# Altium integrated library TI Interface LVDS M-LVDS ECL CML.IntLib: 251 symbols (part 4 of 10)
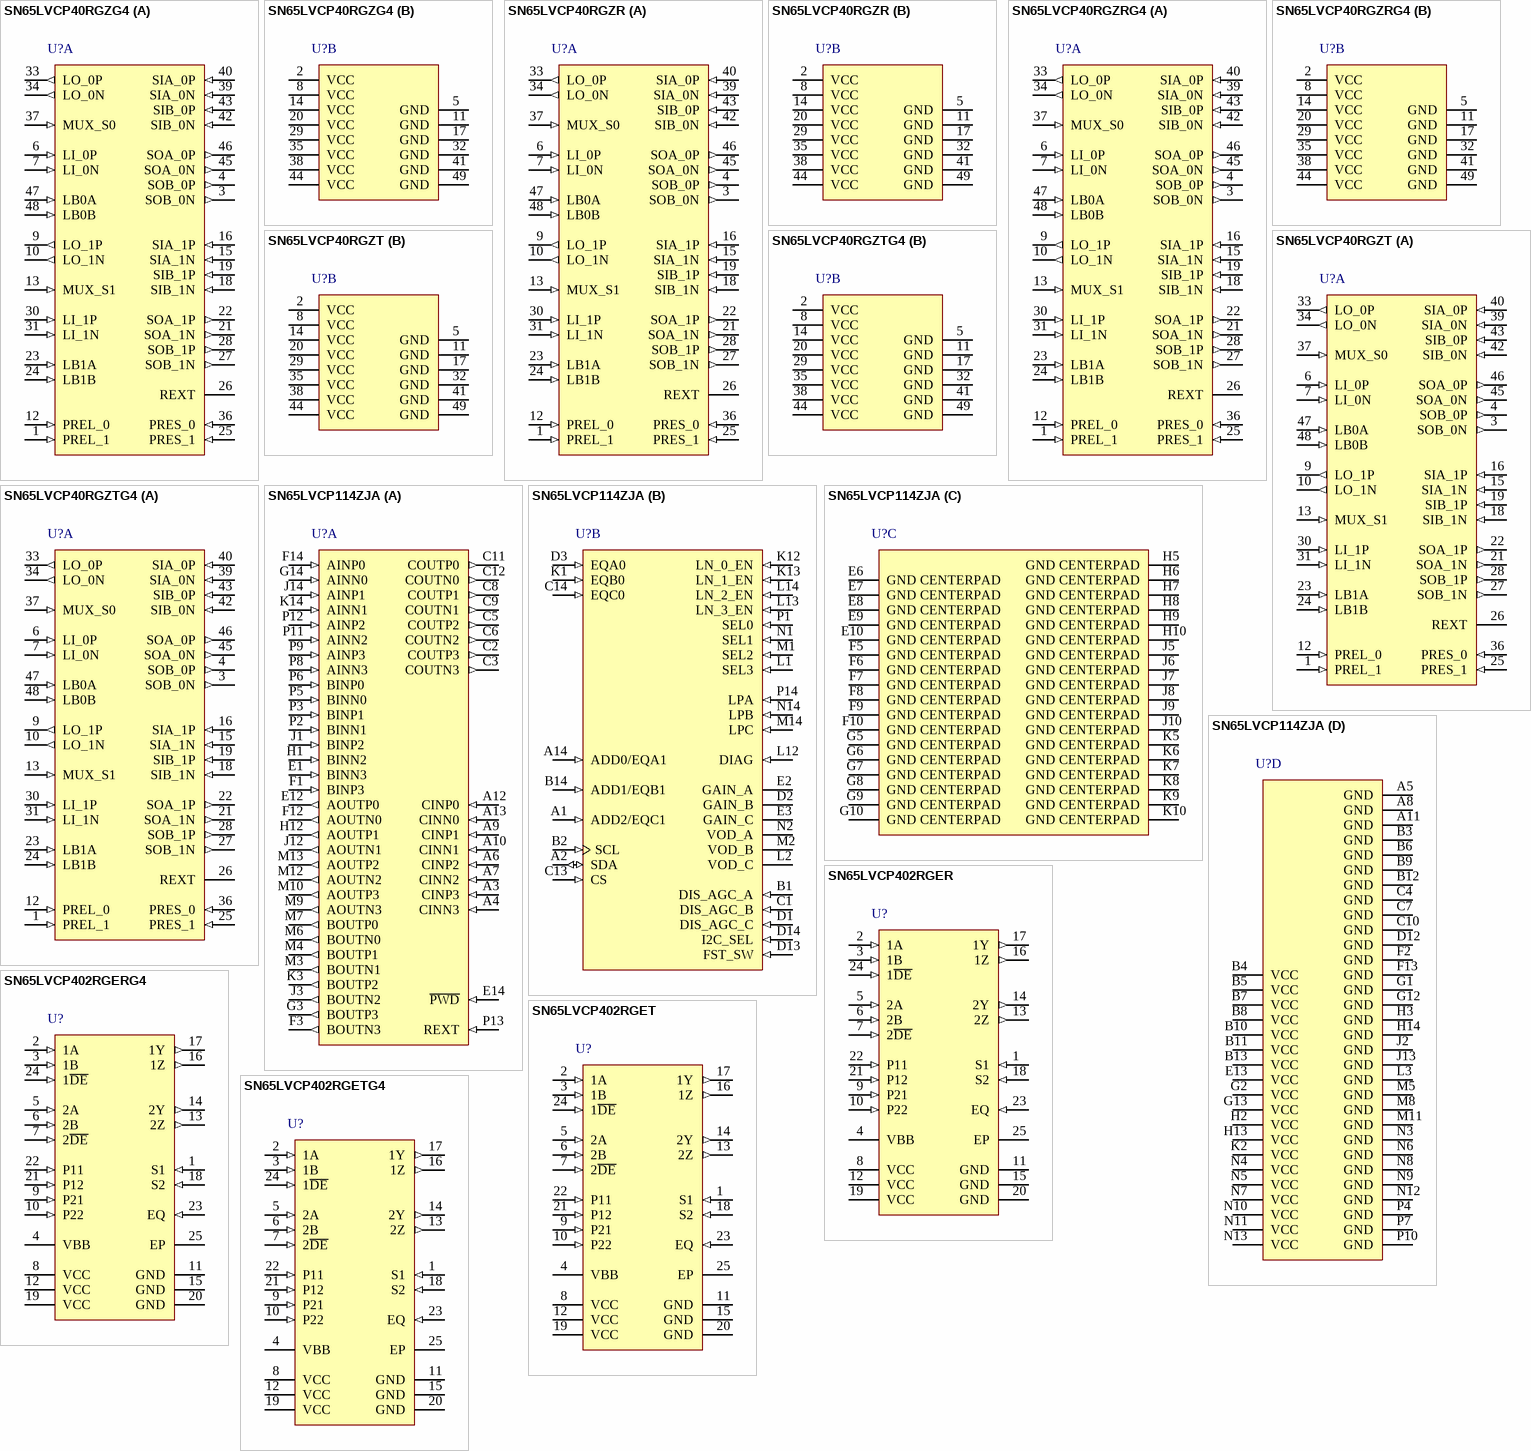
[diagram p12: symbols SN65LVCP40RGZG4 to SN65LVCP402RGETG4]

## SN65LVCP402RGER
designator U?
4250 Mbps 2 x 2 Gigabit Crosspoint Switch with CML Input and VML Output, 2 Tx and 2 Rx, -40 to +85 degC, 25-pin VQFN (RGE), Green (RoHS & no Sb/Br); Part-to-Part Skew(Max)(ps): 500; Manufacturer: Texas Instruments; PartNumber: SN65LVCP402RGER; Crosspoint-Switch: TRUE; ESD HBM(kV): 3; ICC(Max)(mA): 110; Input Signal: CML, VML; No. of Rx: 2; Peak-to-Peak Jitter(Max)(ps): 30; Signaling Rate(Mbps): 4250; SubFamily: Crosspoint-Switch (>1Gbps); DatasheetVersion: SLLS699A; PackageVersion: revG, Jul-2011; PackageReference: RGE24-2450X2450TP; PackageDescription: 24-Pin Plastic Quad Flatpack No-Lead, 4 x 4 mm Body, 0.5 mm Pitch; Supplier 1: Digi-Key; Supplier Part Number 1: SN65LVCP402RGER-ND; Supplier 2: Newark; Supplier Part Number 2: 50M8931; Supplier 3: Mouser; Supplier Part Number 3: 595-SN65LVCP402RGER; Eco-Plan: Green (RoHS & no Sb/Br); Function: Crosspoint; No. of Tx: 2; Output Signal: VML; Mounting Technology: Surface Mount; Code_JEDEC: MO-220; ComponentLink1Description: Datasheet; ComponentLink1URL: http://www.ti.com/general/docs/lit/getliterature.tsp?genericPartNumber=SN65LVCP402&fileType=pdf; ComponentLink2Description: URL Link1; ComponentLink2URL: SamplesURL:http://www.ti.com/product/sn65lvcp402#samples
footprint RGE24-2450X2450TP (QFN, 24-Leads, Body 4x4mm, Pitch 0.5mm, Thermal Pad 2.45x2.45mm, TI Recommended)
pins: 1 S1 (in) "Switching Selection; LVTTL", 2 1A (in) "Line Side Differential Inputs CML compatible", 3 1B (in) "Line Side Differential Inputs CML compatible", 4 VBB (power) "Receiver input biasing voltage.For ac coupling, VBB should be left floating for optimal bias value. For dc coupling, VBB can driven to change the common mode. [see datasheet]", 5 2A (in) "Line Side Differential Inputs CML compatible", 6 2B (in) "Line Side Differential Inputs CML compatible", 7 2~{DE} (in) "Data Enable; Active Low; LVTTL;When not enabled the output is in 3-STATE mode for power savings", 8 VCC (power) "Power Supply 3.3 V +/-5%", 9 P21 (in) "Output Preemphasis Control; LVTTL", 10 P22 (in) "Output Preemphasis Control; LVTTL", 11 GND (power) "ground", 12 VCC (power) "Power Supply 3.3 V +/-5%", 13 2Z (out) "Switch Side Differential Outputs. VML", 14 2Y (out) "Switch Side Differential Outputs. VML", 15 GND (power) "ground", 16 1Z (out) "Switch Side Differential Outputs. VML", 17 1Y (out) "Switch Side Differential Outputs. VML", 18 S2 (in) "Switching Selection; LVTTL", 19 VCC (power) "Power Supply 3.3 V +/-5%", 20 GND (power) "ground", 21 P12 (in) "Output Preemphasis Control; LVTTL", 22 P11 (in) "Output Preemphasis Control; LVTTL", 23 EQ (in) "EQ=1(default) is for the 5 dB setting; EQ=0 is for the 12 dB setting", 24 1~{DE} (in) "Data Enable; Active Low; LVTTL;When not enabled the output is in 3-STATE mode for power savings", 25 EP (power) "The ground center pad of the package must be connected to  Thermal Pad Thermal Pad  GND plane with thermal vias."

## SN65LVCP402RGERG4
designator U?
4250 Mbps 2 x 2 Gigabit Crosspoint Switch with CML Input and VML Output, 2 Tx and 2 Rx, -40 to +85 degC, 25-pin VQFN (RGE), Green (RoHS & no Sb/Br); Part-to-Part Skew(Max)(ps): 500; Manufacturer: Texas Instruments; PartNumber: SN65LVCP402RGERG4; Crosspoint-Switch: TRUE; ESD HBM(kV): 3; ICC(Max)(mA): 110; Input Signal: CML, VML; No. of Rx: 2; Peak-to-Peak Jitter(Max)(ps): 30; Signaling Rate(Mbps): 4250; SubFamily: Crosspoint-Switch (>1Gbps); DatasheetVersion: SLLS699A; PackageVersion: revG, Jul-2011; PackageReference: RGE24-2450X2450TP; PackageDescription: 24-Pin Plastic Quad Flatpack No-Lead, 4 x 4 mm Body, 0.5 mm Pitch; Supplier 1: Digi-Key; Supplier Part Number 1: SN65LVCP402RGERG4-ND; Supplier 2: Newark; Supplier Part Number 2: 52M6012; Supplier 3: Mouser; Supplier Part Number 3: 595-65LVCP402RGERG4; Eco-Plan: Green (RoHS & no Sb/Br); Function: Crosspoint; No. of Tx: 2; Output Signal: VML; Mounting Technology: Surface Mount; Code_JEDEC: MO-220; ComponentLink1Description: Datasheet; ComponentLink1URL: http://www.ti.com/general/docs/lit/getliterature.tsp?genericPartNumber=SN65LVCP402&fileType=pdf; ComponentLink2Description: URL Link1; ComponentLink2URL: SamplesURL:http://www.ti.com/product/sn65lvcp402#samples
footprint RGE24-2450X2450TP (QFN, 24-Leads, Body 4x4mm, Pitch 0.5mm, Thermal Pad 2.45x2.45mm, TI Recommended)
pins: 1 S1 (in) "Switching Selection; LVTTL", 2 1A (in) "Line Side Differential Inputs CML compatible", 3 1B (in) "Line Side Differential Inputs CML compatible", 4 VBB (power) "Receiver input biasing voltage.For ac coupling, VBB should be left floating for optimal bias value. For dc coupling, VBB can driven to change the common mode. [see datasheet]", 5 2A (in) "Line Side Differential Inputs CML compatible", 6 2B (in) "Line Side Differential Inputs CML compatible", 7 2~{DE} (in) "Data Enable; Active Low; LVTTL;When not enabled the output is in 3-STATE mode for power savings", 8 VCC (power) "Power Supply 3.3 V +/-5%", 9 P21 (in) "Output Preemphasis Control; LVTTL", 10 P22 (in) "Output Preemphasis Control; LVTTL", 11 GND (power) "ground", 12 VCC (power) "Power Supply 3.3 V +/-5%", 13 2Z (out) "Switch Side Differential Outputs. VML", 14 2Y (out) "Switch Side Differential Outputs. VML", 15 GND (power) "ground", 16 1Z (out) "Switch Side Differential Outputs. VML", 17 1Y (out) "Switch Side Differential Outputs. VML", 18 S2 (in) "Switching Selection; LVTTL", 19 VCC (power) "Power Supply 3.3 V +/-5%", 20 GND (power) "ground", 21 P12 (in) "Output Preemphasis Control; LVTTL", 22 P11 (in) "Output Preemphasis Control; LVTTL", 23 EQ (in) "EQ=1(default) is for the 5 dB setting; EQ=0 is for the 12 dB setting", 24 1~{DE} (in) "Data Enable; Active Low; LVTTL;When not enabled the output is in 3-STATE mode for power savings", 25 EP (power) "The ground center pad of the package must be connected to  Thermal Pad Thermal Pad  GND plane with thermal vias."

## SN65LVCP402RGET
designator U?
4250 Mbps 2 x 2 Gigabit Crosspoint Switch with CML Input and VML Output, 2 Tx and 2 Rx, -40 to +85 degC, 25-pin VQFN (RGE), Green (RoHS & no Sb/Br); Part-to-Part Skew(Max)(ps): 500; Manufacturer: Texas Instruments; PartNumber: SN65LVCP402RGET; Crosspoint-Switch: TRUE; ESD HBM(kV): 3; ICC(Max)(mA): 110; Input Signal: CML, VML; No. of Rx: 2; Peak-to-Peak Jitter(Max)(ps): 30; Signaling Rate(Mbps): 4250; SubFamily: Crosspoint-Switch (>1Gbps); DatasheetVersion: SLLS699A; PackageVersion: revG, Jul-2011; PackageReference: RGE24-2450X2450TP; PackageDescription: 24-Pin Plastic Quad Flatpack No-Lead, 4 x 4 mm Body, 0.5 mm Pitch; Supplier 1: Digi-Key; Supplier Part Number 1: 296-22242-2-ND; Supplier 2: Digi-Key; Supplier Part Number 2: 296-22242-1-ND; Supplier 3: Digi-Key; Supplier Part Number 3: 296-22242-6-ND; Supplier 4: Newark; Supplier Part Number 4: 50M8932; Supplier 5: Mouser; Supplier Part Number 5: 595-SN65LVCP402RGET; Eco-Plan: Green (RoHS & no Sb/Br); Function: Crosspoint; No. of Tx: 2; Output Signal: VML; Mounting Technology: Surface Mount; Code_JEDEC: MO-220; ComponentLink1Description: Datasheet; ComponentLink1URL: http://www.ti.com/general/docs/lit/getliterature.tsp?genericPartNumber=SN65LVCP402&fileType=pdf; ComponentLink2Description: URL Link1; ComponentLink2URL: SamplesURL:http://www.ti.com/product/sn65lvcp402#samples
footprint RGE24-2450X2450TP (QFN, 24-Leads, Body 4x4mm, Pitch 0.5mm, Thermal Pad 2.45x2.45mm, TI Recommended)
pins: 1 S1 (in) "Switching Selection; LVTTL", 2 1A (in) "Line Side Differential Inputs CML compatible", 3 1B (in) "Line Side Differential Inputs CML compatible", 4 VBB (power) "Receiver input biasing voltage.For ac coupling, VBB should be left floating for optimal bias value. For dc coupling, VBB can driven to change the common mode. [see datasheet]", 5 2A (in) "Line Side Differential Inputs CML compatible", 6 2B (in) "Line Side Differential Inputs CML compatible", 7 2~{DE} (in) "Data Enable; Active Low; LVTTL;When not enabled the output is in 3-STATE mode for power savings", 8 VCC (power) "Power Supply 3.3 V +/-5%", 9 P21 (in) "Output Preemphasis Control; LVTTL", 10 P22 (in) "Output Preemphasis Control; LVTTL", 11 GND (power) "ground", 12 VCC (power) "Power Supply 3.3 V +/-5%", 13 2Z (out) "Switch Side Differential Outputs. VML", 14 2Y (out) "Switch Side Differential Outputs. VML", 15 GND (power) "ground", 16 1Z (out) "Switch Side Differential Outputs. VML", 17 1Y (out) "Switch Side Differential Outputs. VML", 18 S2 (in) "Switching Selection; LVTTL", 19 VCC (power) "Power Supply 3.3 V +/-5%", 20 GND (power) "ground", 21 P12 (in) "Output Preemphasis Control; LVTTL", 22 P11 (in) "Output Preemphasis Control; LVTTL", 23 EQ (in) "EQ=1(default) is for the 5 dB setting; EQ=0 is for the 12 dB setting", 24 1~{DE} (in) "Data Enable; Active Low; LVTTL;When not enabled the output is in 3-STATE mode for power savings", 25 EP (power) "The ground center pad of the package must be connected to  Thermal Pad Thermal Pad  GND plane with thermal vias."

## SN65LVCP402RGETG4
designator U?
4250 Mbps 2 x 2 Gigabit Crosspoint Switch with CML Input and VML Output, 2 Tx and 2 Rx, -40 to +85 degC, 25-pin VQFN (RGE), Green (RoHS & no Sb/Br); Part-to-Part Skew(Max)(ps): 500; Manufacturer: Texas Instruments; PartNumber: SN65LVCP402RGETG4; Crosspoint-Switch: TRUE; ESD HBM(kV): 3; ICC(Max)(mA): 110; Input Signal: CML, VML; No. of Rx: 2; Peak-to-Peak Jitter(Max)(ps): 30; Signaling Rate(Mbps): 4250; SubFamily: Crosspoint-Switch (>1Gbps); DatasheetVersion: SLLS699A; PackageVersion: revG, Jul-2011; PackageReference: RGE24-2450X2450TP; PackageDescription: 24-Pin Plastic Quad Flatpack No-Lead, 4 x 4 mm Body, 0.5 mm Pitch; Supplier 1: Digi-Key; Supplier Part Number 1: SN65LVCP402RGETG4-ND; Supplier 2: Newark; Supplier Part Number 2: 52M6013; Supplier 3: Mouser; Supplier Part Number 3: 595-65LVCP402RGETG4; Eco-Plan: Green (RoHS & no Sb/Br); Function: Crosspoint; No. of Tx: 2; Output Signal: VML; Mounting Technology: Surface Mount; Code_JEDEC: MO-220; ComponentLink1Description: Datasheet; ComponentLink1URL: http://www.ti.com/general/docs/lit/getliterature.tsp?genericPartNumber=SN65LVCP402&fileType=pdf; ComponentLink2Description: URL Link1; ComponentLink2URL: SamplesURL:http://www.ti.com/product/sn65lvcp402#samples
footprint RGE24-2450X2450TP (QFN, 24-Leads, Body 4x4mm, Pitch 0.5mm, Thermal Pad 2.45x2.45mm, TI Recommended)
pins: 1 S1 (in) "Switching Selection; LVTTL", 2 1A (in) "Line Side Differential Inputs CML compatible", 3 1B (in) "Line Side Differential Inputs CML compatible", 4 VBB (power) "Receiver input biasing voltage.For ac coupling, VBB should be left floating for optimal bias value. For dc coupling, VBB can driven to change the common mode. [see datasheet]", 5 2A (in) "Line Side Differential Inputs CML compatible", 6 2B (in) "Line Side Differential Inputs CML compatible", 7 2~{DE} (in) "Data Enable; Active Low; LVTTL;When not enabled the output is in 3-STATE mode for power savings", 8 VCC (power) "Power Supply 3.3 V +/-5%", 9 P21 (in) "Output Preemphasis Control; LVTTL", 10 P22 (in) "Output Preemphasis Control; LVTTL", 11 GND (power) "ground", 12 VCC (power) "Power Supply 3.3 V +/-5%", 13 2Z (out) "Switch Side Differential Outputs. VML", 14 2Y (out) "Switch Side Differential Outputs. VML", 15 GND (power) "ground", 16 1Z (out) "Switch Side Differential Outputs. VML", 17 1Y (out) "Switch Side Differential Outputs. VML", 18 S2 (in) "Switching Selection; LVTTL", 19 VCC (power) "Power Supply 3.3 V +/-5%", 20 GND (power) "ground", 21 P12 (in) "Output Preemphasis Control; LVTTL", 22 P11 (in) "Output Preemphasis Control; LVTTL", 23 EQ (in) "EQ=1(default) is for the 5 dB setting; EQ=0 is for the 12 dB setting", 24 1~{DE} (in) "Data Enable; Active Low; LVTTL;When not enabled the output is in 3-STATE mode for power savings", 25 EP (power) "The ground center pad of the package must be connected to  Thermal Pad Thermal Pad  GND plane with thermal vias."

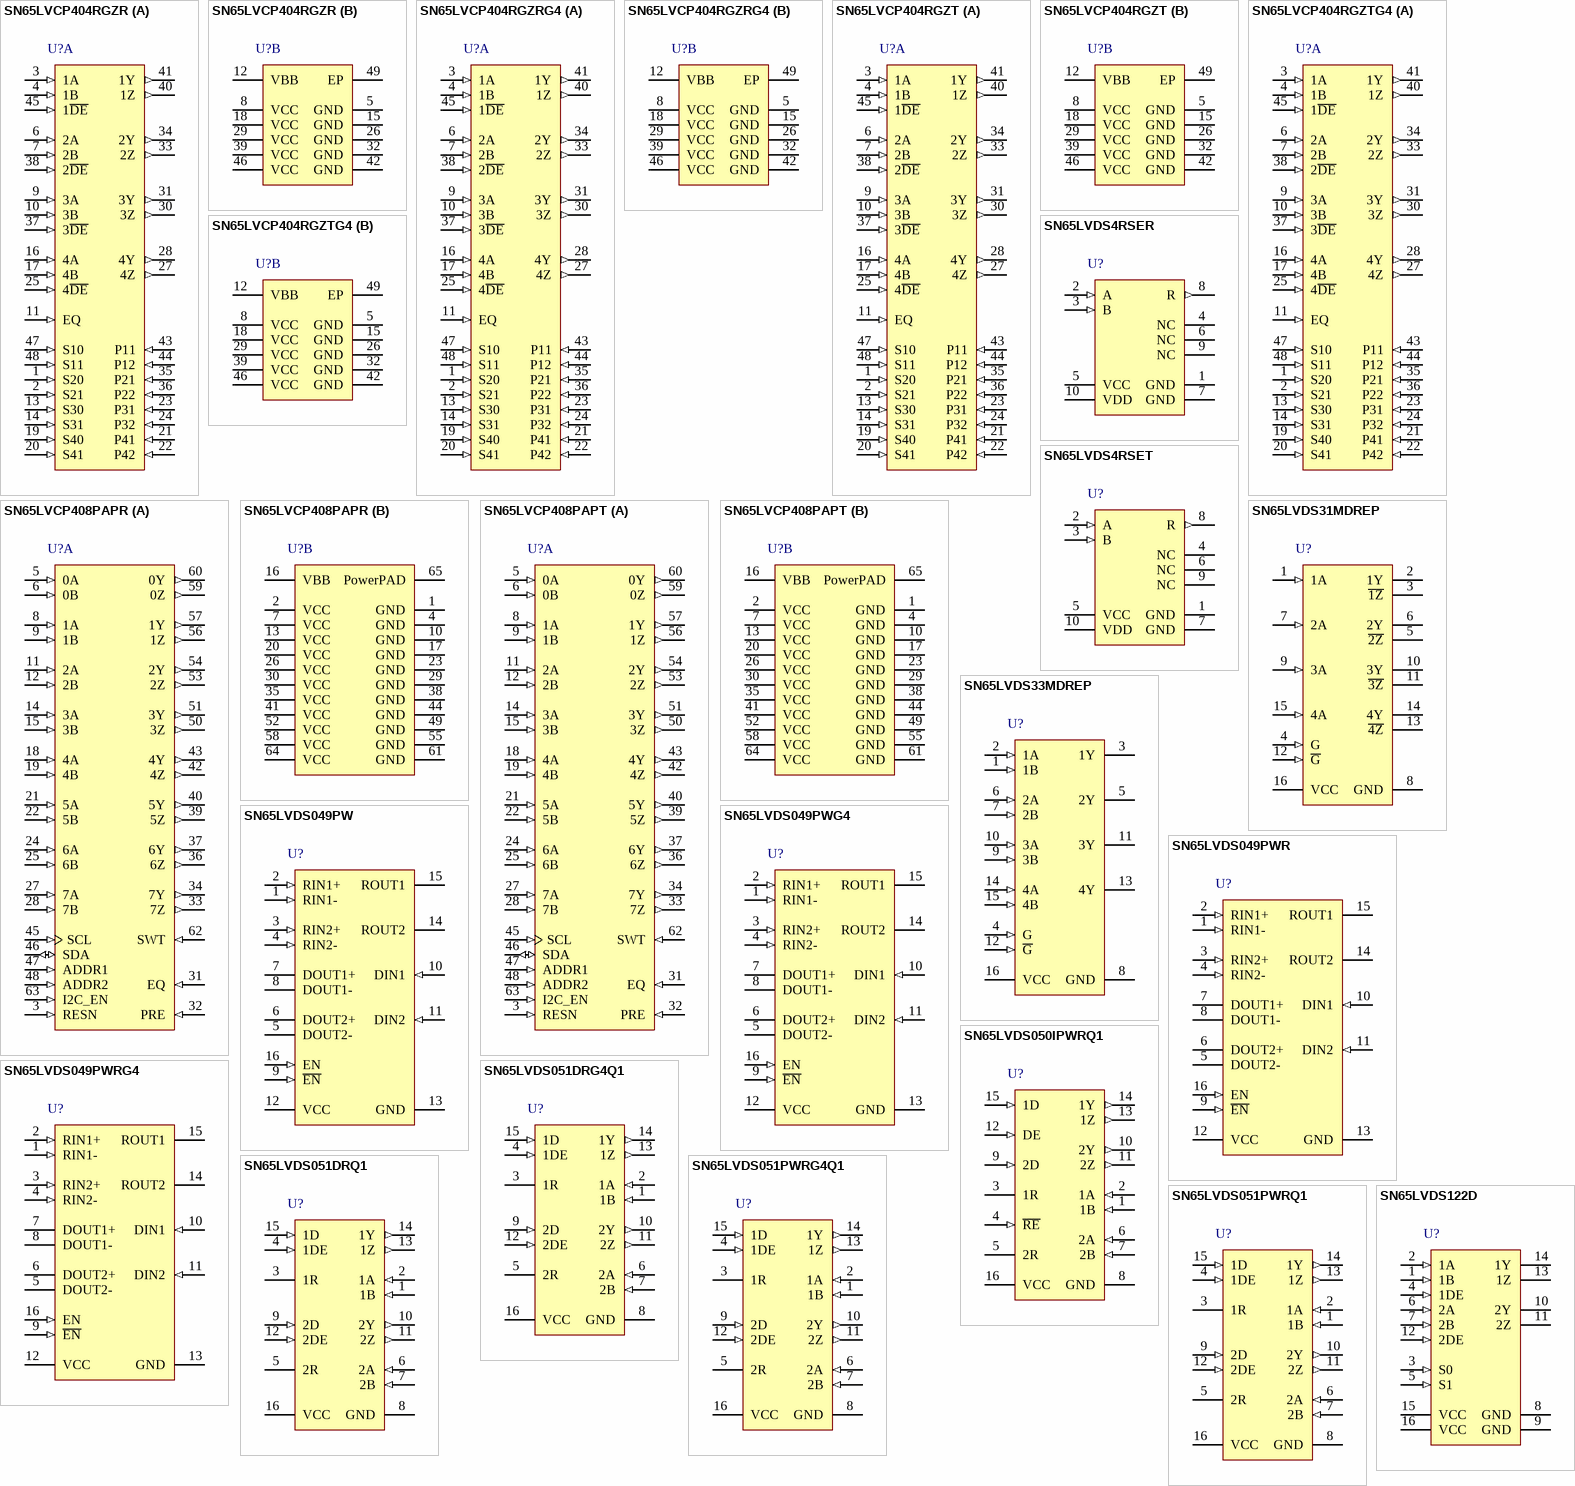
[diagram p3: symbols SN65LVCP404RGZR to SN65LVDS122D]

## SN65LVCP404RGZR
designator U?
4250 Mbps 4 x 4 LVDS Crosspoint Switch with CML Input and VML Output, 4 Tx and 4 Rx, -40 to +85 degC, 49-pin VQFN (RGZ), Green (RoHS & no Sb/Br); Part-to-Part Skew(Max)(ps): 300; Manufacturer: Texas Instruments; PartNumber: SN65LVCP404RGZR; Crosspoint-Switch: TRUE; ESD HBM(kV): 3; ICC(Max)(mA): 220; Input Signal: CML, VML; No. of Rx: 4; Peak-to-Peak Jitter(Max)(ps): 30; Signaling Rate(Mbps): 4250; SubFamily: Crosspoint-Switch (>1Gbps); DatasheetVersion: SLLS913; PackageVersion: revF, Jun-2011; PackageReference: RGZ48-4100X4100TP; PackageDescription: 48-Pin Plastic Quad Flatpack No-Lead, 7 x 7 mm Body, 0.5 mm Pitch; Supplier 1: Digi-Key; Supplier Part Number 1: 296-21669-2-ND; Supplier 2: Digi-Key; Supplier Part Number 2: 296-21669-1-ND; Supplier 3: Digi-Key; Supplier Part Number 3: 296-21669-6-ND; Supplier 4: Newark; Supplier Part Number 4: 36M9521; Supplier 5: Mouser; Supplier Part Number 5: 595-SN65LVCP404RGZR; Eco-Plan: Green (RoHS & no Sb/Br); Function: Crosspoint; No. of Tx: 4; Output Signal: VML; Mounting Technology: Surface Mount; Code_JEDEC: MO-220; ComponentLink1Description: Datasheet; ComponentLink1URL: http://www.ti.com/general/docs/lit/getliterature.tsp?genericPartNumber=SN65LVCP404&fileType=pdf; ComponentLink2Description: URL Link1; ComponentLink2URL: SamplesURL:http://www.ti.com/product/sn65lvcp404#samples
footprint RGZ48-4100X4100TP (QFN, 48-Leads, Body 7x7mm, Pitch 0.5mm, Thermal Pad 5.15x5.15mm, TI Recommended)
part A pins: 1 S20 (in) "Switching Selection; LVTTL", 2 S21 (in) "Switching Selection; LVTTL", 3 1A (in) "Line Side Differential Inputs CML compatible", 4 1B (in) "Line Side Differential Inputs CML compatible", 6 2A (in) "Line Side Differential Inputs CML compatible", 7 2B (in) "Line Side Differential Inputs CML compatible", 9 3A (in) "Line Side Differential Inputs CML compatible", 10 3B (in) "Line Side Differential Inputs CML compatible", 11 EQ (in) "EQ = 1 (default) is for the 5 dB setting, EQ = 0 is for the 12 dB setting", 13 S30 (in) "Switching Selection; LVTTL", 14 S31 (in) "Switching Selection; LVTTL", 16 4A (in) "Line Side Differential Inputs CML compatible", 17 4B (in) "Line Side Differential Inputs CML compatible", 19 S40 (in) "Switching Selection; LVTTL", 20 S41 (in) "Switching Selection; LVTTL", 21 P41 (in) "Output Preemphasis Control; LVTTL", 22 P42 (in) "Output Preemphasis Control; LVTTL", 23 P31 (in) "Output Preemphasis Control; LVTTL", 24 P32 (in) "Output Preemphasis Control; LVTTL", 25 4~{DE} (in) "Data Enable; Active Low; LVTTL; When not enabled the ouput is in 3-STATE mode for power savings", 27 4Z (out) "Switch Side Differential Outputs. VML", 28 4Y (out) "Switch Side Differential Outputs. VML", 30 3Z (out) "Switch Side Differential Outputs. VML", 31 3Y (out) "Switch Side Differential Outputs. VML", 33 2Z (out) "Switch Side Differential Outputs. VML", 34 2Y (out) "Switch Side Differential Outputs. VML", 35 P21 (in) "Output Preemphasis Control; LVTTL", 36 P22 (in) "Output Preemphasis Control; LVTTL", 37 3~{DE} (in) "Data Enable; Active Low; LVTTL; When not enabled the ouput is in 3-STATE mode for power savings", 38 2~{DE} (in) "Data Enable; Active Low; LVTTL; When not enabled the ouput is in 3-STATE mode for power savings", 40 1Z (out) "Switch Side Differential Outputs. VML", 41 1Y (out) "Switch Side Differential Outputs. VML", 43 P11 (in) "Output Preemphasis Control; LVTTL", 44 P12 (in) "Output Preemphasis Control; LVTTL", 45 1~{DE} (in) "Data Enable; Active Low; LVTTL; When not enabled the ouput is in 3-STATE mode for power savings", 47 S10 (in) "Switching Selection; LVTTL", 48 S11 (in) "Switching Selection; LVTTL"
part B pins: 5 GND (power) "Ground", 8 VCC (power) "Power Supply 3.3v +/-5%", 12 VBB (power) "Receiver input biasing voltage. For ac coupling, VBB should be left floating for optimal bias value. For dc coupling, VBB can driven to change the common mode. [see datasheet]", 15 GND (power) "Ground", 18 VCC (power) "Power Supply 3.3v +/-5%", 26 GND (power) "Ground", 29 VCC (power) "Power Supply 3.3v +/-5%", 32 GND (power) "Ground", 39 VCC (power) "Power Supply 3.3v +/-5%", 42 GND (power) "Ground", 46 VCC (power) "Power Supply 3.3v +/-5%", 49 EP (power) "The ground center pad of the package must be connected to GND plane."

## SN65LVCP404RGZRG4
designator U?
4250 Mbps 4 x 4 LVDS Crosspoint Switch with CML Input and VML Output, 4 Tx and 4 Rx, -40 to +85 degC, 49-pin VQFN (RGZ), Green (RoHS & no Sb/Br); Part-to-Part Skew(Max)(ps): 300; Manufacturer: Texas Instruments; PartNumber: SN65LVCP404RGZRG4; Crosspoint-Switch: TRUE; ESD HBM(kV): 3; ICC(Max)(mA): 220; Input Signal: CML, VML; No. of Rx: 4; Peak-to-Peak Jitter(Max)(ps): 30; Signaling Rate(Mbps): 4250; SubFamily: Crosspoint-Switch (>1Gbps); DatasheetVersion: SLLS913; PackageVersion: revF, Jun-2011; PackageReference: RGZ48-4100X4100TP; PackageDescription: 48-Pin Plastic Quad Flatpack No-Lead, 7 x 7 mm Body, 0.5 mm Pitch; Supplier 1: Digi-Key; Supplier Part Number 1: SN65LVCP404RGZRG4-ND; Supplier 2: Newark; Supplier Part Number 2: 41M4289; Supplier 3: Mouser; Supplier Part Number 3: 595-65LVCP404RGZRG4; Eco-Plan: Green (RoHS & no Sb/Br); Function: Crosspoint; No. of Tx: 4; Output Signal: VML; Mounting Technology: Surface Mount; Code_JEDEC: MO-220; ComponentLink1Description: Datasheet; ComponentLink1URL: http://www.ti.com/general/docs/lit/getliterature.tsp?genericPartNumber=SN65LVCP404&fileType=pdf; ComponentLink2Description: URL Link1; ComponentLink2URL: SamplesURL:http://www.ti.com/product/sn65lvcp404#samples
footprint RGZ48-4100X4100TP (QFN, 48-Leads, Body 7x7mm, Pitch 0.5mm, Thermal Pad 5.15x5.15mm, TI Recommended)
part A pins: 1 S20 (in) "Switching Selection; LVTTL", 2 S21 (in) "Switching Selection; LVTTL", 3 1A (in) "Line Side Differential Inputs CML compatible", 4 1B (in) "Line Side Differential Inputs CML compatible", 6 2A (in) "Line Side Differential Inputs CML compatible", 7 2B (in) "Line Side Differential Inputs CML compatible", 9 3A (in) "Line Side Differential Inputs CML compatible", 10 3B (in) "Line Side Differential Inputs CML compatible", 11 EQ (in) "EQ = 1 (default) is for the 5 dB setting, EQ = 0 is for the 12 dB setting", 13 S30 (in) "Switching Selection; LVTTL", 14 S31 (in) "Switching Selection; LVTTL", 16 4A (in) "Line Side Differential Inputs CML compatible", 17 4B (in) "Line Side Differential Inputs CML compatible", 19 S40 (in) "Switching Selection; LVTTL", 20 S41 (in) "Switching Selection; LVTTL", 21 P41 (in) "Output Preemphasis Control; LVTTL", 22 P42 (in) "Output Preemphasis Control; LVTTL", 23 P31 (in) "Output Preemphasis Control; LVTTL", 24 P32 (in) "Output Preemphasis Control; LVTTL", 25 4~{DE} (in) "Data Enable; Active Low; LVTTL; When not enabled the ouput is in 3-STATE mode for power savings", 27 4Z (out) "Switch Side Differential Outputs. VML", 28 4Y (out) "Switch Side Differential Outputs. VML", 30 3Z (out) "Switch Side Differential Outputs. VML", 31 3Y (out) "Switch Side Differential Outputs. VML", 33 2Z (out) "Switch Side Differential Outputs. VML", 34 2Y (out) "Switch Side Differential Outputs. VML", 35 P21 (in) "Output Preemphasis Control; LVTTL", 36 P22 (in) "Output Preemphasis Control; LVTTL", 37 3~{DE} (in) "Data Enable; Active Low; LVTTL; When not enabled the ouput is in 3-STATE mode for power savings", 38 2~{DE} (in) "Data Enable; Active Low; LVTTL; When not enabled the ouput is in 3-STATE mode for power savings", 40 1Z (out) "Switch Side Differential Outputs. VML", 41 1Y (out) "Switch Side Differential Outputs. VML", 43 P11 (in) "Output Preemphasis Control; LVTTL", 44 P12 (in) "Output Preemphasis Control; LVTTL", 45 1~{DE} (in) "Data Enable; Active Low; LVTTL; When not enabled the ouput is in 3-STATE mode for power savings", 47 S10 (in) "Switching Selection; LVTTL", 48 S11 (in) "Switching Selection; LVTTL"
part B pins: 5 GND (power) "Ground", 8 VCC (power) "Power Supply 3.3v +/-5%", 12 VBB (power) "Receiver input biasing voltage. For ac coupling, VBB should be left floating for optimal bias value. For dc coupling, VBB can driven to change the common mode. [see datasheet]", 15 GND (power) "Ground", 18 VCC (power) "Power Supply 3.3v +/-5%", 26 GND (power) "Ground", 29 VCC (power) "Power Supply 3.3v +/-5%", 32 GND (power) "Ground", 39 VCC (power) "Power Supply 3.3v +/-5%", 42 GND (power) "Ground", 46 VCC (power) "Power Supply 3.3v +/-5%", 49 EP (power) "The ground center pad of the package must be connected to GND plane."

## SN65LVCP404RGZT
designator U?
4250 Mbps 4 x 4 LVDS Crosspoint Switch with CML Input and VML Output, 4 Tx and 4 Rx, -40 to +85 degC, 49-pin VQFN (RGZ), Green (RoHS & no Sb/Br); Part-to-Part Skew(Max)(ps): 300; Manufacturer: Texas Instruments; PartNumber: SN65LVCP404RGZT; Crosspoint-Switch: TRUE; ESD HBM(kV): 3; ICC(Max)(mA): 220; Input Signal: CML, VML; No. of Rx: 4; Peak-to-Peak Jitter(Max)(ps): 30; Signaling Rate(Mbps): 4250; SubFamily: Crosspoint-Switch (>1Gbps); DatasheetVersion: SLLS913; PackageVersion: revF, Jun-2011; PackageReference: RGZ48-4100X4100TP; PackageDescription: 48-Pin Plastic Quad Flatpack No-Lead, 7 x 7 mm Body, 0.5 mm Pitch; Supplier 1: Digi-Key; Supplier Part Number 1: SN65LVCP404RGZT-ND; Supplier 2: Newark; Supplier Part Number 2: 53M3889; Supplier 3: Mouser; Supplier Part Number 3: 595-SN65LVCP404RGZT; Eco-Plan: Green (RoHS & no Sb/Br); Function: Crosspoint; No. of Tx: 4; Output Signal: VML; Mounting Technology: Surface Mount; Code_JEDEC: MO-220; ComponentLink1Description: Datasheet; ComponentLink1URL: http://www.ti.com/general/docs/lit/getliterature.tsp?genericPartNumber=SN65LVCP404&fileType=pdf; ComponentLink2Description: URL Link1; ComponentLink2URL: SamplesURL:http://www.ti.com/product/sn65lvcp404#samples
footprint RGZ48-4100X4100TP (QFN, 48-Leads, Body 7x7mm, Pitch 0.5mm, Thermal Pad 5.15x5.15mm, TI Recommended)
part A pins: 1 S20 (in) "Switching Selection; LVTTL", 2 S21 (in) "Switching Selection; LVTTL", 3 1A (in) "Line Side Differential Inputs CML compatible", 4 1B (in) "Line Side Differential Inputs CML compatible", 6 2A (in) "Line Side Differential Inputs CML compatible", 7 2B (in) "Line Side Differential Inputs CML compatible", 9 3A (in) "Line Side Differential Inputs CML compatible", 10 3B (in) "Line Side Differential Inputs CML compatible", 11 EQ (in) "EQ = 1 (default) is for the 5 dB setting, EQ = 0 is for the 12 dB setting", 13 S30 (in) "Switching Selection; LVTTL", 14 S31 (in) "Switching Selection; LVTTL", 16 4A (in) "Line Side Differential Inputs CML compatible", 17 4B (in) "Line Side Differential Inputs CML compatible", 19 S40 (in) "Switching Selection; LVTTL", 20 S41 (in) "Switching Selection; LVTTL", 21 P41 (in) "Output Preemphasis Control; LVTTL", 22 P42 (in) "Output Preemphasis Control; LVTTL", 23 P31 (in) "Output Preemphasis Control; LVTTL", 24 P32 (in) "Output Preemphasis Control; LVTTL", 25 4~{DE} (in) "Data Enable; Active Low; LVTTL; When not enabled the ouput is in 3-STATE mode for power savings", 27 4Z (out) "Switch Side Differential Outputs. VML", 28 4Y (out) "Switch Side Differential Outputs. VML", 30 3Z (out) "Switch Side Differential Outputs. VML", 31 3Y (out) "Switch Side Differential Outputs. VML", 33 2Z (out) "Switch Side Differential Outputs. VML", 34 2Y (out) "Switch Side Differential Outputs. VML", 35 P21 (in) "Output Preemphasis Control; LVTTL", 36 P22 (in) "Output Preemphasis Control; LVTTL", 37 3~{DE} (in) "Data Enable; Active Low; LVTTL; When not enabled the ouput is in 3-STATE mode for power savings", 38 2~{DE} (in) "Data Enable; Active Low; LVTTL; When not enabled the ouput is in 3-STATE mode for power savings", 40 1Z (out) "Switch Side Differential Outputs. VML", 41 1Y (out) "Switch Side Differential Outputs. VML", 43 P11 (in) "Output Preemphasis Control; LVTTL", 44 P12 (in) "Output Preemphasis Control; LVTTL", 45 1~{DE} (in) "Data Enable; Active Low; LVTTL; When not enabled the ouput is in 3-STATE mode for power savings", 47 S10 (in) "Switching Selection; LVTTL", 48 S11 (in) "Switching Selection; LVTTL"
part B pins: 5 GND (power) "Ground", 8 VCC (power) "Power Supply 3.3v +/-5%", 12 VBB (power) "Receiver input biasing voltage. For ac coupling, VBB should be left floating for optimal bias value. For dc coupling, VBB can driven to change the common mode. [see datasheet]", 15 GND (power) "Ground", 18 VCC (power) "Power Supply 3.3v +/-5%", 26 GND (power) "Ground", 29 VCC (power) "Power Supply 3.3v +/-5%", 32 GND (power) "Ground", 39 VCC (power) "Power Supply 3.3v +/-5%", 42 GND (power) "Ground", 46 VCC (power) "Power Supply 3.3v +/-5%", 49 EP (power) "The ground center pad of the package must be connected to GND plane."

## SN65LVCP404RGZTG4
designator U?
4250 Mbps 4 x 4 LVDS Crosspoint Switch with CML, VML Input and VML Output, 4 Tx and 4 Rx, -40 to +85 degC, 48-pin VQFN (RGZ), Green (RoHS & no Sb/Br); Part-to-Part Skew(Max)(ps): 300; Manufacturer: Texas Instruments; PartNumber: SN65LVCP404RGZTG4; Crosspoint-Switch: TRUE; ESD HBM(kV): 3; ICC(Max)(mA): 220; No. of Rx: 4; Peak-to-Peak Jitter(Max)(ps): 30; Signaling Rate(Mbps): 4250; SubFamily: Crosspoint-Switch (>1Gbps); DatasheetVersion: SLLS913; PackageVersion: revF, Jun-2011; PackageReference: RGZ48-4100X4100TP; PackageDescription: 48-Pin Plastic Quad Flatpack No-Lead, 7 x 7 mm Body, 0.5 mm Pitch; Supplier 1: Digi-Key; Supplier Part Number 1: SN65LVCP404RGZTG4-ND; Supplier 2: Newark; Supplier Part Number 2: 60M1726; Supplier 3: Mouser; Supplier Part Number 3: 595-S65LVCP404RGZTG4; Eco-Plan: Green (RoHS & no Sb/Br); Function: Crosspoint; Input Signal: CML, VML; No. of Tx: 4; Output Signal: VML; Mounting Technology: Surface Mount; Code_JEDEC: MO-220; ComponentLink1Description: Datasheet; ComponentLink1URL: http://www.ti.com/general/docs/lit/getliterature.tsp?genericPartNumber=SN65LVCP404&fileType=pdf; ComponentLink2Description: URL Link1; ComponentLink2URL: SamplesURL:http://www.ti.com/product/sn65lvcp404#samples
footprint RGZ48-4100X4100TP (QFN, 48-Leads, Body 7x7mm, Pitch 0.5mm, Thermal Pad 5.15x5.15mm, TI Recommended)
part A pins: 1 S20 (in) "Switching Selection; LVTTL", 2 S21 (in) "Switching Selection; LVTTL", 3 1A (in) "Line Side Differential Inputs CML compatible", 4 1B (in) "Line Side Differential Inputs CML compatible", 6 2A (in) "Line Side Differential Inputs CML compatible", 7 2B (in) "Line Side Differential Inputs CML compatible", 9 3A (in) "Line Side Differential Inputs CML compatible", 10 3B (in) "Line Side Differential Inputs CML compatible", 11 EQ (in) "EQ = 1 (default) is for the 5 dB setting, EQ = 0 is for the 12 dB setting", 13 S30 (in) "Switching Selection; LVTTL", 14 S31 (in) "Switching Selection; LVTTL", 16 4A (in) "Line Side Differential Inputs CML compatible", 17 4B (in) "Line Side Differential Inputs CML compatible", 19 S40 (in) "Switching Selection; LVTTL", 20 S41 (in) "Switching Selection; LVTTL", 21 P41 (in) "Output Preemphasis Control; LVTTL", 22 P42 (in) "Output Preemphasis Control; LVTTL", 23 P31 (in) "Output Preemphasis Control; LVTTL", 24 P32 (in) "Output Preemphasis Control; LVTTL", 25 4~{DE} (in) "Data Enable; Active Low; LVTTL; When not enabled the ouput is in 3-STATE mode for power savings", 27 4Z (out) "Switch Side Differential Outputs. VML", 28 4Y (out) "Switch Side Differential Outputs. VML", 30 3Z (out) "Switch Side Differential Outputs. VML", 31 3Y (out) "Switch Side Differential Outputs. VML", 33 2Z (out) "Switch Side Differential Outputs. VML", 34 2Y (out) "Switch Side Differential Outputs. VML", 35 P21 (in) "Output Preemphasis Control; LVTTL", 36 P22 (in) "Output Preemphasis Control; LVTTL", 37 3~{DE} (in) "Data Enable; Active Low; LVTTL; When not enabled the ouput is in 3-STATE mode for power savings", 38 2~{DE} (in) "Data Enable; Active Low; LVTTL; When not enabled the ouput is in 3-STATE mode for power savings", 40 1Z (out) "Switch Side Differential Outputs. VML", 41 1Y (out) "Switch Side Differential Outputs. VML", 43 P11 (in) "Output Preemphasis Control; LVTTL", 44 P12 (in) "Output Preemphasis Control; LVTTL", 45 1~{DE} (in) "Data Enable; Active Low; LVTTL; When not enabled the ouput is in 3-STATE mode for power savings", 47 S10 (in) "Switching Selection; LVTTL", 48 S11 (in) "Switching Selection; LVTTL"
part B pins: 5 GND (power) "Ground", 8 VCC (power) "Power Supply 3.3v +/-5%", 12 VBB (power) "Receiver input biasing voltage. For ac coupling, VBB should be left floating for optimal bias value. For dc coupling, VBB can driven to change the common mode. [see datasheet]", 15 GND (power) "Ground", 18 VCC (power) "Power Supply 3.3v +/-5%", 26 GND (power) "Ground", 29 VCC (power) "Power Supply 3.3v +/-5%", 32 GND (power) "Ground", 39 VCC (power) "Power Supply 3.3v +/-5%", 42 GND (power) "Ground", 46 VCC (power) "Power Supply 3.3v +/-5%", 49 EP (power) "The ground center pad of the package must be connected to GND plane."

## SN65LVCP408PAPR
designator U?
4250 Mbps 8 x 8 Crosspoint Switch with CML, VML Input and VML Output, 8 Tx and 8 Rx, -40 to +85 degC, 64-pin HTQFP (PAP), Green (RoHS & no Sb/Br); Part-to-Part Skew(Max)(ps): 150; Manufacturer: Texas Instruments; PartNumber: SN65LVCP408PAPR; Crosspoint-Switch: TRUE; ESD HBM(kV): 3; ICC(Max)(mA): 440; No. of Rx: 8; Peak-to-Peak Jitter(Max)(ps): 30; Signaling Rate(Mbps): 4250; SubFamily: Crosspoint-Switch (>1Gbps); DatasheetVersion: SLLS842A; PackageVersion: revC, Aug-2003; PackageReference: PAP64-4650X4650TP; PackageDescription: 64-Pin Plastic Quad Flat Pack, 10 x 10 mm Body, 0.5 mm Pitch, Exposed Pad; Supplier 1: Digi-Key; Supplier Part Number 1: 296-25173-2-ND; Supplier 2: Digi-Key; Supplier Part Number 2: 296-25173-1-ND; Supplier 3: Digi-Key; Supplier Part Number 3: 296-25173-6-ND; Supplier 4: Newark; Supplier Part Number 4: 24R9948; Supplier 5: Mouser; Supplier Part Number 5: 595-SN65LVCP408PAPR; Eco-Plan: Green (RoHS & no Sb/Br); Function: Crosspoint; Input Signal: CML, VML; No. of Tx: 8; Output Signal: VML; Mounting Technology: Surface Mount; Code_JEDEC: MS-026; ComponentLink1Description: Datasheet; ComponentLink1URL: http://www.ti.com/general/docs/lit/getliterature.tsp?genericPartNumber=SN65LVCP408&fileType=pdf; ComponentLink2Description: URL Link1; ComponentLink2URL: SamplesURL:http://www.ti.com/product/sn65lvcp408#samples
footprint PAP64-4650X4650TP_N (Thin QFP, 64-Leads, Body 10x10mm, Pitch 0.5mm, Thermal Pad 5x5mm, IPC Medium Density)
footprint PAP64-4650X4650TP_L (Thin QFP, 64-Leads, Body 10x10mm, Pitch 0.5mm, Thermal Pad 5x5mm, IPC High Density)
footprint PAP64-4650X4650TP_M (Thin QFP, 64-Leads, Body 10x10mm, Pitch 0.5mm, Thermal Pad 5x5mm, IPC Low Density)
part A pins: 3 RESN (in) "Configuration Reset. Resets I2C register space (Active Low). Note upon device startup the RESN pin must be driven low to reset the device registers.", 5 0A (in) "Line Side Differential Inputs CML compatible", 6 0B (in) "Line Side Differential Inputs CML compatible", 8 1A (in) "Line Side Differential Inputs CML compatible", 9 1B (in) "Line Side Differential Inputs CML compatible", 11 2A (in) "Line Side Differential Inputs CML compatible", 12 2B (in) "Line Side Differential Inputs CML compatible", 14 3A (in) "Line Side Differential Inputs CML compatible", 15 3B (in) "Line Side Differential Inputs CML compatible", 18 4A (in) "Line Side Differential Inputs CML compatible", 19 4B (in) "Line Side Differential Inputs CML compatible", 21 5A (in) "Line Side Differential Inputs CML compatible", 22 5B (in) "Line Side Differential Inputs CML compatible", 24 6A (in) "Line Side Differential Inputs CML compatible", 25 6B (in) "Line Side Differential Inputs CML compatible", 27 7A (in) "Line Side Differential Inputs CML compatible", 28 7B (in) "Line Side Differential Inputs CML compatible", 31 EQ (in) "Equalization setting when I2C is not enabled. EQ=0 for 13dB and setting EQ=1 for 9dB.", 32 PRE (in) "Pre-Emphasis setting when I2C is not enabled. PRE=0 for 0dB and setting PRE=1 for 6dB.", 33 7Z (out) "Switch Side Differential Outputs. VML", 34 7Y (out) "Switch Side Differential Outputs. VML", 36 6Z (out) "Switch Side Differential Outputs. VML", 37 6Y (out) "Switch Side Differential Outputs. VML", 39 5Z (out) "Switch Side Differential Outputs. VML", 40 5Y (out) "Switch Side Differential Outputs. VML", 42 4Z (out) "Switch Side Differential Outputs. VML", 43 4Y (out) "Switch Side Differential Outputs. VML", 45 SCL (in) "I2C Control Interface (SCL: Clock, SDA: Data, ADDR: Address)", 46 SDA (io) "I2C Control Interface (SCL: Clock, SDA: Data, ADDR: Address)", 47 ADDR1 (in) "I2C Control Interface (SCL: Clock, SDA: Data, ADDR: Address)", 48 ADDR2 (in) "I2C Control Interface (SCL: Clock, SDA: Data, ADDR: Address)", 50 3Z (out) "Switch Side Differential Outputs. VML", 51 3Y (out) "Switch Side Differential Outputs. VML", 53 2Z (out) "Switch Side Differential Outputs. VML", 54 2Y (out) "Switch Side Differential Outputs. VML", 56 1Z (out) "Switch Side Differential Outputs. VML", 57 1Y (out) "Switch Side Differential Outputs. VML", 59 0Z (out) "Switch Side Differential Outputs. VML", 60 0Y (out) "Switch Side Differential Outputs. VML", 62 SWT (in) "Enable switch event when toggled", 63 I2C_EN (in) "Enables I2C control interface I2C_EN=1 for enable; When EN=0 then the PRE and EQ pins are used to set the Pre-Emphasis and Equalization settings rather than the I2C register map. [see datasheet]"
part B pins: 1 GND (power) "ground", 2 VCC (power) "Power Supply 3.3v+/-5%", 4 GND (power) "Ground", 7 VCC (power) "Power Supply 3.3v+/-5%", 10 GND (power) "Ground", 13 VCC (power) "Power Supply 3.3v+/-5%", 16 VBB (power) "Receiver input biasing voltage", 17 GND (power) "Ground", 20 VCC (power) "Power Supply 3.3v+/-5%", 23 GND (power) "Ground", 26 VCC (power) "Power Supply 3.3v+/-5%", 29 GND (power) "Ground", 30 VCC (power) "Power Supply 3.3v+/-5%", 35 VCC (power) "Power Supply 3.3v+/-5%", 38 GND (power) "Ground", 41 VCC (power) "Power Supply 3.3v+/-5%", 44 GND (power) "Ground", 49 GND (power) "Ground", 52 VCC (power) "Power Supply 3.3v+/-5%", 55 GND (power) "Ground", 58 VCC (power) "Power Supply 3.3v+/-5%", 61 GND (power) "Ground", 64 VCC (power) "Power Supply 3.3v+/-5%", 65 PowerPAD (power) "The ground center pad of the package must be connected to GND plane."

## SN65LVCP408PAPT
designator U?
4.25 Gbps 8 x 8 Crosspoint Switch with CML, VML Input and VML Output, 8 Tx and 8 Rx, -40 to +85 degC, 65-pin HTQFP (PAP), Green (RoHS & no Sb/Br); Part-to-Part Skew(Max)(ps): 150; Manufacturer: Texas Instruments; PartNumber: SN65LVCP408PAPT; Crosspoint-Switch: TRUE; ESD HBM(kV): 3; ICC(Max)(mA): 440; No. of Rx: 8; Peak-to-Peak Jitter(Max)(ps): 30; Signaling Rate(Mbps): 4250; SubFamily: Crosspoint-Switch (>1Gbps); DatasheetVersion: SLLS842A; PackageVersion: revC, Aug-2003; PackageReference: PAP64-4650X4650TP; PackageDescription: 64-Pin Plastic Quad Flat Pack, 10 x 10 mm Body, 0.5 mm Pitch, Exposed Pad; Supplier 1: Digi-Key; Supplier Part Number 1: SN65LVCP408PAPT-ND; Supplier 2: Newark; Supplier Part Number 2: 24R9949; Supplier 3: Mouser; Supplier Part Number 3: 595-SN65LVCP408PAPT; Eco-Plan: Green (RoHS & no Sb/Br); Function: Crosspoint; Input Signal: CML, VML; No. of Tx: 8; Output Signal: VML; Mounting Technology: Surface Mount; Code_JEDEC: MS-026; ComponentLink1Description: Datasheet; ComponentLink1URL: http://www.ti.com/general/docs/lit/getliterature.tsp?genericPartNumber=SN65LVCP408&fileType=pdf; ComponentLink2Description: URL Link1; ComponentLink2URL: SamplesURL:http://www.ti.com/product/sn65lvcp408#samples
footprint PAP64-4650X4650TP_N (Thin QFP, 64-Leads, Body 10x10mm, Pitch 0.5mm, Thermal Pad 5x5mm, IPC Medium Density)
footprint PAP64-4650X4650TP_L (Thin QFP, 64-Leads, Body 10x10mm, Pitch 0.5mm, Thermal Pad 5x5mm, IPC High Density)
footprint PAP64-4650X4650TP_M (Thin QFP, 64-Leads, Body 10x10mm, Pitch 0.5mm, Thermal Pad 5x5mm, IPC Low Density)
part A pins: 3 RESN (in) "Configuration Reset. Resets I2C register space (Active Low). Note upon device startup the RESN pin must be driven low to reset the device registers.", 5 0A (in) "Line Side Differential Inputs CML compatible", 6 0B (in) "Line Side Differential Inputs CML compatible", 8 1A (in) "Line Side Differential Inputs CML compatible", 9 1B (in) "Line Side Differential Inputs CML compatible", 11 2A (in) "Line Side Differential Inputs CML compatible", 12 2B (in) "Line Side Differential Inputs CML compatible", 14 3A (in) "Line Side Differential Inputs CML compatible", 15 3B (in) "Line Side Differential Inputs CML compatible", 18 4A (in) "Line Side Differential Inputs CML compatible", 19 4B (in) "Line Side Differential Inputs CML compatible", 21 5A (in) "Line Side Differential Inputs CML compatible", 22 5B (in) "Line Side Differential Inputs CML compatible", 24 6A (in) "Line Side Differential Inputs CML compatible", 25 6B (in) "Line Side Differential Inputs CML compatible", 27 7A (in) "Line Side Differential Inputs CML compatible", 28 7B (in) "Line Side Differential Inputs CML compatible", 31 EQ (in) "Equalization setting when I2C is not enabled. EQ=0 for 13dB and setting EQ=1 for 9dB.", 32 PRE (in) "Pre-Emphasis setting when I2C is not enabled. PRE=0 for 0dB and setting PRE=1 for 6dB.", 33 7Z (out) "Switch Side Differential Outputs. VML", 34 7Y (out) "Switch Side Differential Outputs. VML", 36 6Z (out) "Switch Side Differential Outputs. VML", 37 6Y (out) "Switch Side Differential Outputs. VML", 39 5Z (out) "Switch Side Differential Outputs. VML", 40 5Y (out) "Switch Side Differential Outputs. VML", 42 4Z (out) "Switch Side Differential Outputs. VML", 43 4Y (out) "Switch Side Differential Outputs. VML", 45 SCL (in) "I2C Control Interface (SCL: Clock, SDA: Data, ADDR: Address)", 46 SDA (io) "I2C Control Interface (SCL: Clock, SDA: Data, ADDR: Address)", 47 ADDR1 (in) "I2C Control Interface (SCL: Clock, SDA: Data, ADDR: Address)", 48 ADDR2 (in) "I2C Control Interface (SCL: Clock, SDA: Data, ADDR: Address)", 50 3Z (out) "Switch Side Differential Outputs. VML", 51 3Y (out) "Switch Side Differential Outputs. VML", 53 2Z (out) "Switch Side Differential Outputs. VML", 54 2Y (out) "Switch Side Differential Outputs. VML", 56 1Z (out) "Switch Side Differential Outputs. VML", 57 1Y (out) "Switch Side Differential Outputs. VML", 59 0Z (out) "Switch Side Differential Outputs. VML", 60 0Y (out) "Switch Side Differential Outputs. VML", 62 SWT (in) "Enable switch event when toggled", 63 I2C_EN (in) "Enables I2C control interface I2C_EN=1 for enable; When EN=0 then the PRE and EQ pins are used to set the Pre-Emphasis and Equalization settings rather than the I2C register map. [see datasheet]"
part B pins: 1 GND (power) "ground", 2 VCC (power) "Power Supply 3.3v+/-5%", 4 GND (power) "Ground", 7 VCC (power) "Power Supply 3.3v+/-5%", 10 GND (power) "Ground", 13 VCC (power) "Power Supply 3.3v+/-5%", 16 VBB (power) "Receiver input biasing voltage", 17 GND (power) "Ground", 20 VCC (power) "Power Supply 3.3v+/-5%", 23 GND (power) "Ground", 26 VCC (power) "Power Supply 3.3v+/-5%", 29 GND (power) "Ground", 30 VCC (power) "Power Supply 3.3v+/-5%", 35 VCC (power) "Power Supply 3.3v+/-5%", 38 GND (power) "Ground", 41 VCC (power) "Power Supply 3.3v+/-5%", 44 GND (power) "Ground", 49 GND (power) "Ground", 52 VCC (power) "Power Supply 3.3v+/-5%", 55 GND (power) "Ground", 58 VCC (power) "Power Supply 3.3v+/-5%", 61 GND (power) "Ground", 64 VCC (power) "Power Supply 3.3v+/-5%", 65 PowerPAD (power) "The ground center pad of the package must be connected to GND plane."

## SN65LVDS4RSER
designator U?
500 Mbps High-Speed Differential Line Driver / Recievers with LVDS Input and LVTTL, LVCMOS Output, 0 Tx and 1 Rx, -40 to +85 degC, 10-pin UQFN (RSE), Green (RoHS & no Sb/Br); Manufacturer: Texas Instruments; PartNumber: SN65LVDS4RSER; ESD HBM(kV): 2; Function: Transceiver; No. of Rx: 1; No. of Tx: 0; Signaling Rate(Mbps): 500; SubFamily: LVDS PHY (<800Mbps); DatasheetVersion: SLLSE15; PackageVersion: revD, Jan-2011; PackageReference: RSE10; PackageDescription: 10-Leads Plastic Quad Flatpack No-Lead, 2 x 1.5 x 0.55 mm Body, 0.5 mm Pitch; Supplier 1: Digi-Key; Supplier Part Number 1: SN65LVDS4RSER-ND; Supplier 2: Newark; Supplier Part Number 2: 58T0266; Supplier 3: Mouser; Supplier Part Number 3: 595-SN65LVDS4RSER; Eco-Plan: Green (RoHS & no Sb/Br); Input Signal: LVDS; Output Signal: LVTTL, LVCMOS; Mounting Technology: Surface Mount; Code_JEDEC: MO-288-UEFD; ComponentLink1Description: Datasheet; ComponentLink1URL: http://www.ti.com/general/docs/lit/getliterature.tsp?genericPartNumber=SN65LVDS4&fileType=pdf; ComponentLink2Description: URL Link1; ComponentLink2URL: SamplesURL:http://www.ti.com/product/sn65lvds4#samples
footprint RSE10 (QFN, 10-Leads, Body 1.5x2mm, Pitch 0.5mm, TI Recommended)
pins: 1 GND (power) "Ground", 2 A (in) "LVDS input, positive", 3 B (in) "LVDS input, negative", 4 NC "No connect", 5 VCC (power) "Core supply voltage", 6 NC "No connect", 7 GND (power), 8 R (out) "1.8/2.5 LVCMOS/3.3 LVTTL output", 9 NC "No connect", 10 VDD (power) "Output drive voltage"

## SN65LVDS4RSET
designator U?
500 Mbps High-Speed Differential Line Driver / Receivers with LVDS Input and LVTTL / LVCMOS Output, 1 Rx, -40 to +85 degC, 10-pin UQFN (RSE), Green (RoHS & no Sb/Br); Manufacturer: Texas Instruments; PartNumber: SN65LVDS4RSET; ESD HBM(kV): 2; Function: Transceiver; No. of Rx: 1; No. of Tx: 0; Output Signal: LVTTL, LVCMOS; Signaling Rate(Mbps): 500; SubFamily: LVDS PHY (<800Mbps); DatasheetVersion: SLLSE15; PackageVersion: revD, Jan-2011; PackageReference: RSE10; PackageDescription: 10-Leads Plastic Quad Flatpack No-Lead, 2 x 1.5 x 0.55 mm Body, 0.5 mm Pitch; Supplier 1: Digi-Key; Supplier Part Number 1: 296-29257-2-ND; Supplier 2: Digi-Key; Supplier Part Number 2: 296-29257-1-ND; Supplier 3: Digi-Key; Supplier Part Number 3: 296-29257-6-ND; Supplier 4: Newark; Supplier Part Number 4: 58T0267; Supplier 5: Mouser; Supplier Part Number 5: 595-SN65LVDS4RSET; Eco-Plan: Green (RoHS & no Sb/Br); Input Signal: LVDS; Mounting Technology: Surface Mount; Code_JEDEC: MO-288-UEFD; ComponentLink1Description: Datasheet; ComponentLink1URL: http://www.ti.com/general/docs/lit/getliterature.tsp?genericPartNumber=SN65LVDS4&fileType=pdf; ComponentLink2Description: URL Link1; ComponentLink2URL: SamplesURL:http://www.ti.com/product/sn65lvds4#samples
footprint RSE10 (QFN, 10-Leads, Body 1.5x2mm, Pitch 0.5mm, TI Recommended)
pins: 1 GND (power) "Ground", 2 A (in) "LVDS input, positive", 3 B (in) "LVDS input, negative", 4 NC "No connect", 5 VCC (power) "Core supply voltage", 6 NC "No connect", 7 GND (power), 8 R (out) "1.8/2.5 LVCMOS/3.3 LVTTL output", 9 NC "No connect", 10 VDD (power) "Output drive voltage"

## SN65LVDS31MDREP
designator U?
400 Mbps Enhanced Product Quad LVDS Transmitter with LVTTL Input and Output, 4 Tx and 0 Rx, -55 to +125 degC, 16-pin SOIC (D), Green (RoHS & no Sb/Br); Manufacturer: Texas Instruments; PartNumber: SN65LVDS31MDREP; ESD HBM(kV): 8; ICC(Max)(mA): 35; No. of Tx: 4; Signaling Rate(Mbps): 400; SubFamily: LVDS PHY (<800Mbps); DatasheetVersion: SLLSE91; PackageVersion: revM, Jun-2011; PackageReference: D16; PackageDescription: 16-Pin Plastic Small Outline Integrated Circuit, 9.9 x 3.9 mm, Pitch 1.27 mm Pitch; Supplier 1: Digi-Key; Supplier Part Number 1: SN65LVDS31MDREP-ND; Supplier 2: Newark; Supplier Part Number 2: 71T5386; Supplier 3: Mouser; Supplier Part Number 3: 595-SN65LVDS31MDREP; Eco-Plan: Green (RoHS & no Sb/Br); Input Signal: LVTTL; Mounting Technology: Surface Mount; Code_JEDEC: MS-012AC; ComponentLink1Description: Datasheet; ComponentLink1URL: http://www.ti.com/general/docs/lit/getliterature.tsp?genericPartNumber=SN65LVDS31-EP&fileType=pdf; ComponentLink2Description: URL Link1; ComponentLink2URL: SamplesURL:http://www.ti.com/product/sn65lvds31-ep#samples
footprint D16_N (SOIC, 16-Leads, Body 9.9x3.9mm, Pitch 1.27mm, IPC Medium Density)
footprint D16_L (SOIC, 16-Leads, Body 9.9x3.9mm, Pitch 1.27mm, IPC High Density)
footprint D16_M (SOIC, 16-Leads, Body 9.9x3.9mm, Pitch 1.27mm, IPC Low Density)
pins: 1 1A (in), 2 1Y (hiz), 3 ~{1Z} (hiz), 4 G (in), 5 ~{2Z} (hiz), 6 2Y (hiz), 7 2A (in), 8 GND (power), 9 3A (in), 10 3Y (hiz), 11 ~{3Z} (hiz), 12 ~{G} (in), 13 ~{4Z} (hiz), 14 4Y (hiz), 15 4A (in), 16 VCC (power)

## SN65LVDS33MDREP
designator U?
400 Mbps Enhanced Product High Speed Differential Receivers with CMOS, ECL, LVCMOS, LVDS, LVECL, LVPECL, PECL Input and LVTTL Output, 4 Rx, -55 to +125 degC, 16-pin SOIC (D), Green (RoHS & no Sb/Br); Part-to-Part Skew(Max)(ps): 1200; Manufacturer: Texas Instruments; PartNumber: SN65LVDS33MDREP; ESD HBM(kV): 15; ICC(Max)(mA): 25; No. of Rx: 4; Signaling Rate(Mbps): 400; SubFamily: LVDS PHY (<800Mbps); DatasheetVersion: SGLS309B; PackageVersion: revM, Jun-2011; PackageReference: D16; PackageDescription: 16-Pin Plastic Small Outline Integrated Circuit, 9.9 x 3.9 mm, Pitch 1.27 mm Pitch; Supplier 1: Digi-Key; Supplier Part Number 1: 296-19498-2-ND; Supplier 2: Digi-Key; Supplier Part Number 2: 296-19498-1-ND; Supplier 3: Digi-Key; Supplier Part Number 3: 296-19498-6-ND; Supplier 4: Newark; Supplier Part Number 4: 45M9843; Supplier 5: Mouser; Supplier Part Number 5: 595-SN65LVDS33MDREP; Eco-Plan: Green (RoHS & no Sb/Br); Function: Receiver; Input Signal: CMOS, ECL, LVCMOS, LVDS, LVECL, LVPECL, PECL; Output Signal: LVTTL; Mounting Technology: Surface Mount; Code_JEDEC: MS-012AC; ComponentLink1Description: Datasheet; ComponentLink1URL: http://www.ti.com/general/docs/lit/getliterature.tsp?genericPartNumber=SN65LVDS33-EP&fileType=pdf; ComponentLink2Description: URL Link1; ComponentLink2URL: SamplesURL:http://www.ti.com/product/sn65lvds33-ep#samples
footprint D16_N (SOIC, 16-Leads, Body 9.9x3.9mm, Pitch 1.27mm, IPC Medium Density)
footprint D16_L (SOIC, 16-Leads, Body 9.9x3.9mm, Pitch 1.27mm, IPC High Density)
footprint D16_M (SOIC, 16-Leads, Body 9.9x3.9mm, Pitch 1.27mm, IPC Low Density)
pins: 1 1B (in), 2 1A (in), 3 1Y (hiz), 4 G (in), 5 2Y (hiz), 6 2A (in), 7 2B (in), 8 GND (power), 9 3B (in), 10 3A (in), 11 3Y (hiz), 12 ~{G} (in), 13 4Y (hiz), 14 4A (in), 15 4B (in), 16 VCC (power)

## SN65LVDS049PW
designator U?
400 Mbps Dual High-Speed Differential Driver & Receiver with LVDS, LVTTL Input and LVDS, LVTTL Output, 2 Tx and 2 Rx, -40 to +85 degC, 16-pin TSSOP (PW), Green (RoHS & no Sb/Br); Part-to-Part Skew(Max)(ps): 1000; Manufacturer: Texas Instruments; PartNumber: SN65LVDS049PW; ESD HBM(kV): 10; Function: Transceiver; ICC(Max)(mA): 35; LVDS: TRUE; No. of Rx: 2; Signaling Rate(Mbps): 400; SubFamily: LVDS PHY (<800Mbps); DatasheetVersion: SLLS575; PackageVersion: revG, Feb-2011; PackageReference: PW16; PackageDescription: 16-Pin Plastic Thin Small Outline Package 5 x 4.4 mm Body ,0.65 mm Pitch; Eco-Plan: Green (RoHS & no Sb/Br); Input Signal: LVDS, LVTTL; No. of Tx: 2; Output Signal: LVDS, LVTTL; Mounting Technology: Surface Mount; Code_JEDEC: MO-153; ComponentLink1Description: Datasheet; ComponentLink1URL: http://www.ti.com/general/docs/lit/getliterature.tsp?genericPartNumber=SN65LVDS049&fileType=pdf; ComponentLink2Description: URL Link1; ComponentLink2URL: SamplesURL:http://www.ti.com/product/sn65lvds049#samples
footprint PW16_N (TSOP, 16-Leads, Body 5x4.4mm, Pitch 0.65mm, IPC Medium Density)
footprint PW16_L (TSOP, 16-Leads, Body 5x4.4mm, Pitch 0.65mm, IPC High Density)
footprint PW16_M (TSOP, 16-Leads, Body 5x4.4mm, Pitch 0.65mm, IPC Low Density)
pins: 1 RIN1- (in), 2 RIN1+ (in), 3 RIN2+ (in), 4 RIN2- (in), 5 DOUT2- (hiz), 6 DOUT2+ (hiz), 7 DOUT1+ (hiz), 8 DOUT1- (hiz), 9 ~{EN} (in), 10 DIN1 (in), 11 DIN2 (in), 12 VCC (power), 13 GND (power), 14 ROUT2 (hiz), 15 ROUT1 (hiz), 16 EN (in)

## SN65LVDS049PWG4
designator U?
400 Mbps Dual High-Speed Differential Driver & Receiver with LVDS, LVTTL Input and LVDS, LVTTL Output, 2 Tx and 2 Rx, -40 to +85 degC, 16-pin TSSOP (PW), Green (RoHS & no Sb/Br); Part-to-Part Skew(Max)(ps): 1000; Manufacturer: Texas Instruments; PartNumber: SN65LVDS049PWG4; ESD HBM(kV): 10; Function: Transceiver; ICC(Max)(mA): 35; LVDS: TRUE; No. of Rx: 2; Signaling Rate(Mbps): 400; SubFamily: LVDS PHY (<800Mbps); DatasheetVersion: SLLS575; PackageVersion: revG, Feb-2011; PackageReference: PW16; PackageDescription: 16-Pin Plastic Thin Small Outline Package 5 x 4.4 mm Body ,0.65 mm Pitch; Eco-Plan: Green (RoHS & no Sb/Br); Input Signal: LVDS, LVTTL; No. of Tx: 2; Output Signal: LVDS, LVTTL; Mounting Technology: Surface Mount; Code_JEDEC: MO-153; ComponentLink1Description: Datasheet; ComponentLink1URL: http://www.ti.com/general/docs/lit/getliterature.tsp?genericPartNumber=SN65LVDS049&fileType=pdf; ComponentLink2Description: URL Link1; ComponentLink2URL: SamplesURL:http://www.ti.com/product/sn65lvds049#samples
footprint PW16_N (TSOP, 16-Leads, Body 5x4.4mm, Pitch 0.65mm, IPC Medium Density)
footprint PW16_L (TSOP, 16-Leads, Body 5x4.4mm, Pitch 0.65mm, IPC High Density)
footprint PW16_M (TSOP, 16-Leads, Body 5x4.4mm, Pitch 0.65mm, IPC Low Density)
pins: 1 RIN1- (in), 2 RIN1+ (in), 3 RIN2+ (in), 4 RIN2- (in), 5 DOUT2- (hiz), 6 DOUT2+ (hiz), 7 DOUT1+ (hiz), 8 DOUT1- (hiz), 9 ~{EN} (in), 10 DIN1 (in), 11 DIN2 (in), 12 VCC (power), 13 GND (power), 14 ROUT2 (hiz), 15 ROUT1 (hiz), 16 EN (in)